# Altium integrated library CANTRAN3V3.IntLib: 2 symbols
Pins are listed as number, name and electrical type; pins without a type are passive.

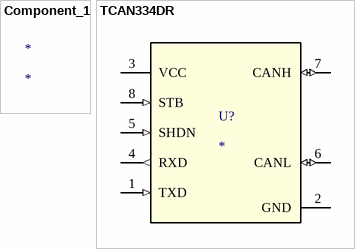
[diagram p0: symbols Component_1 to TCAN334DR]

## Component_1
designator *
footprint D0008A_M

## TCAN334DR
designator U?
No Description Available; Manufacturer: Texas Instruments; PartNumber: TCAN334DR; RefDes: RefDes; Type: DEV; Value: Value; Copyright: Copyright (C) 2018 Accelerated Designs. All rights reserved
footprint D0008A_N
pins: 1 TXD (in), 2 GND (power), 3 VCC (power), 4 RXD (out), 5 SHDN (in), 6 CANL (io), 7 CANH (io), 8 STB (in)